# Altium schematic symbol library IC.SchLib: 22 symbols
Pins are listed as number, name and electrical type; pins without a type are passive.

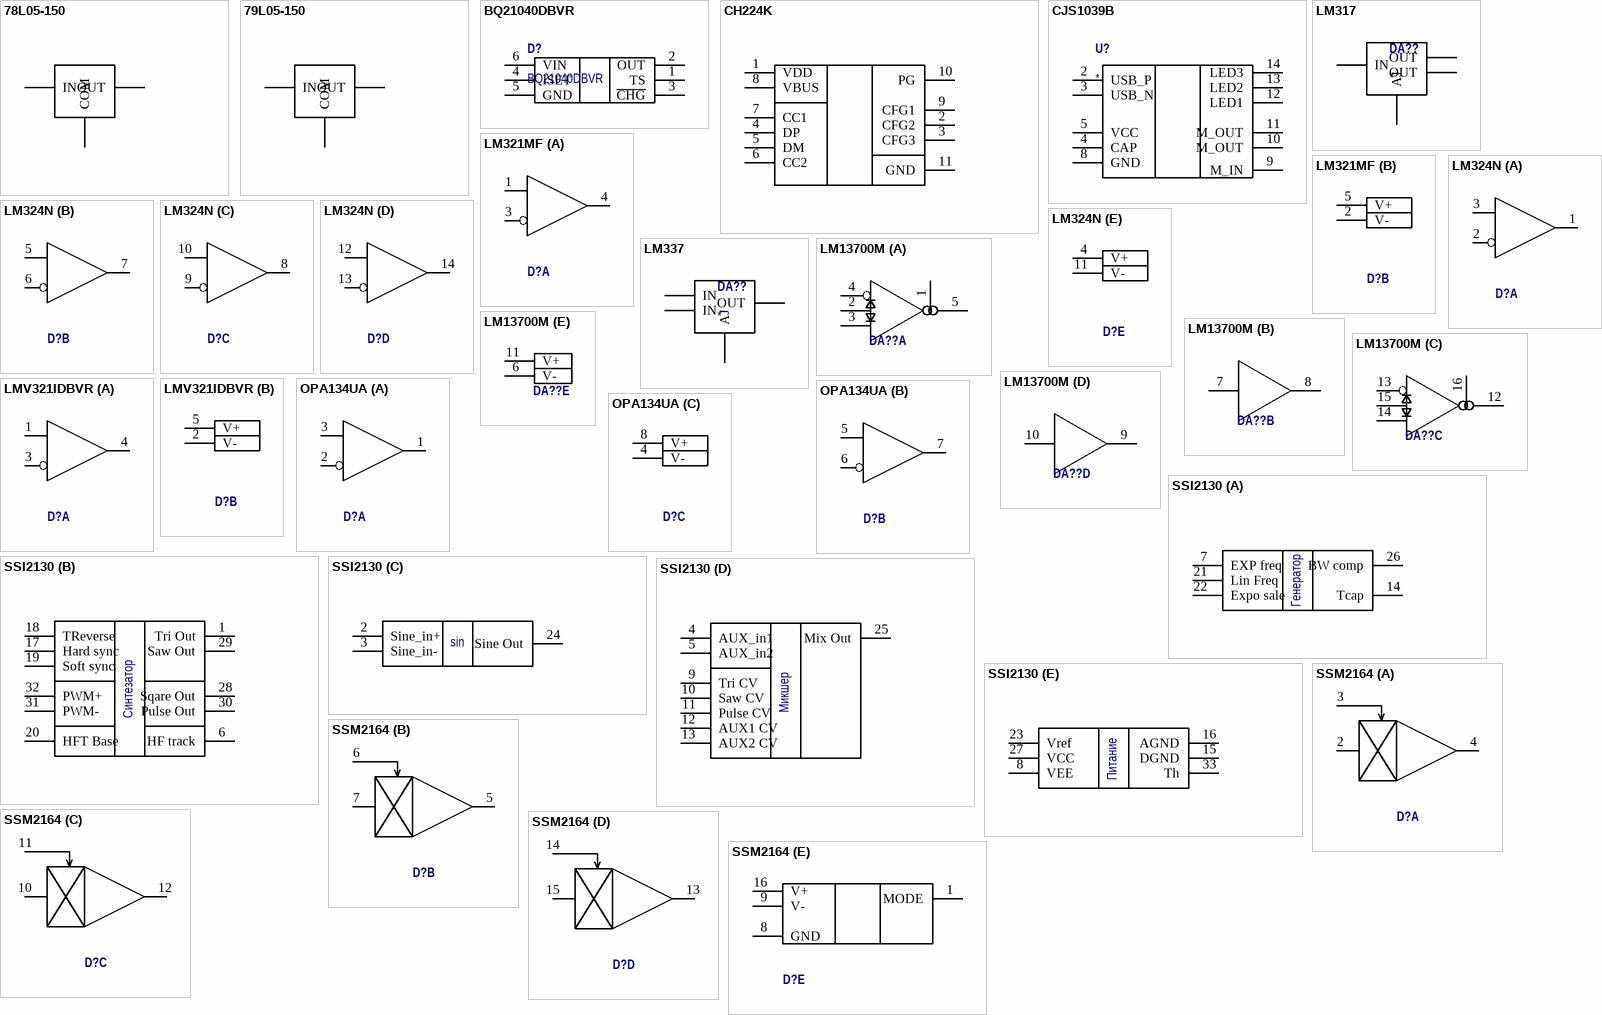
[diagram p0: symbols 78L05-150 to SSM2164]

## 78L05-150
designator D?, comment 78L05  (value not drawn)
Стабилизатор напряжения +5В 0.15А; planar: 1; rotation_offset: 90; name: *
footprint SOT89-150P410X160-3N (SOT89, 3-Leads, Body 4,50x2,45mm, Pitch 1,50mm, Lead Span 4,1mm, IPC Medium Density)
pins: 1 OUT, 2 COM, 3 IN

## 79L05-150
designator D?, comment 79L05  (value not drawn)
Стабилизатор напряжения -5В 0.15А; planar: 1; rotation_offset: 90; name: *
footprint SOT89-150P410X160-3N (SOT89, 3-Leads, Body 4,50x2,45mm, Pitch 1,50mm, Lead Span 4,1mm, IPC Medium Density)
pins: 1 COM, 2 IN, 3 OUT

## BQ21040DBVR
designator D?
Контроллер заряда литий-ионных/полимерных аккумуляторов, 1 Cell, 0.8А; type: Микросхемы; name: BQ21040DBVR
footprint SOT95P280X145-6N (SOT23, 6-Leads, Body 2,90x2,80mm, Pitch 0,95mm, IPC Medium Density)
pins: 1 TS, 2 OUT, 3 ~{CHG}, 4 ISET, 5 GND, 6 VIN

## CH224K
designator D?
CH224K USB QC/PD trigger; planar: 1; rotation_offset: 90; name: CH224K
footprint SOP100P590X180_HS-11N (SOP, 10-Leads, Body 4,90x3,80mm, Pitch 1,00mm, Thermal Pad 3,20x2,30mm, IPC Medium Density)
pins: 1 VDD, 2 CFG2, 3 CFG3, 4 DP, 5 DM, 6 CC2, 7 CC1, 8 VBUS, 9 CFG1, 10 PG, 11 GND

## CJS1039B
designator U?
name: CJS1039B; type: Микросхемы
footprint SOIC127P600-14N
pins: 2 USB_P, 3 USB_N, 4 CAP, 5 VCC, 8 GND, 9 M_IN, 10 M_OUT, 11 M_OUT, 12 LED1, 13 LED2, 14 LED3

## LM317
designator DA??
liner regulator; name: LM317AEMP/NOPB; note1: MC78M06BDT; note2: MC78M09BDTG; note3: MC78M15BDTG; type: Микросхемы
footprint SOT223-4N_3D
pins: 1 AJ, 2 OUT, 3 IN, 4 OUT

## LM321MF
designator D?, comment AMP  (value not drawn)
ОУ; name: LM321MF
footprint SOT23-5M
part A pins: 1 +, 3 -, 4 OUT
part B pins: 2 V-, 5 V+

## LM324N
designator D?, comment Quad AMP  (value not drawn)
Счетверенный ОУ; name: LM324NA
footprint SOIC127P600-14N
part A pins: 1 OUTA, 2 -, 3 +
part B pins: 5 +, 6 -, 7 OUTB
part C pins: 8 OUTC, 9 -, 10 +
part D pins: 12 +, 13 -, 14 OUTD
part E pins: 4 V+, 11 V-

## LM337
designator DA??
liner regulator; name: LM337IMP/NOPB; note1: MC78M06BDT; note2: MC78M09BDTG; note3: MC78M15BDTG; type: Микросхемы
footprint SOT223-4N_3D
pins: 1 AJ, 2 IN, 3 OUT, 4 IN

## LM13700M
designator DA??  (value not drawn)
Dual Operational Transconductance Amplifiers / With Linearizing Diodes and Buffers; name: LM324AM; type: Микросхемы
footprint SOIC127P600X175-16N (SOIC, 16-Leads, Body 9,90x3,85mm, Pitch 1,27mm, IPC Medium Density)
part A pins: 1 CCin, 2 CCin, 3 INA+, 4 INA-, 5 OUTA
part B pins: 7 INA, 8 OUTA
part C pins: 12 OUTB, 13 INB-, 14 INB+, 15 CCin, 16 CCin
part D pins: 9 OUTB, 10 INB
part E pins: 6 V-, 11 V+

## LMV321IDBVR
designator D?, comment AMP  (value not drawn)
ОУ; name: LMV321IDBVR
footprint SOT23-5M
part A pins: 1 +, 3 -, 4 OUT
part B pins: 2 V-, 5 V+

## OPA134UA
designator D?, comment Audio AMP  (value not drawn)
Сдвоенный аудио ОУ; name: OPA134UA
footprint SOIC127P600X175-8N (SOIC, 8-Leads, Body 4,90x3,90mm, Pitch 1,27mm, IPC Medium Density)
part A pins: 1 OUTA, 2 -, 3 +
part B pins: 5 +, 6 -, 7 OUTB
part C pins: 4 V-, 8 V+

## SSI2130
designator D?
name: SSI2130A; type: Микросхемы
footprint QFN40P400X400X80_HS-33N (QFN, 32-Leads, Body 4,00x4,00mm, Pitch 0,40mm, Thermal Pad 2,60x2,60mm, IPC Medium Density)
part A pins: 7 EXP freq, 14 Tcap, 21 Lin Freq, 22 Expo sale, 26 BW comp
part B pins: 1 Tri Out, 6 HF track, 17 Hard sync, 18 TReverse, 19 Soft sync, 20 HFT Base, 28 Sqare Out, 29 Saw Out, 30 Pulse Out, 31 PWM-, 32 PWM+
part C pins: 2 Sine_in+, 3 Sine_in-, 24 Sine Out
part D pins: 4 AUX_in1, 5 AUX_in2, 9 Tri CV, 10 Saw CV, 11 Pulse CV, 12 AUX1 CV, 13 AUX2 CV, 25 Mix Out
part E pins: 8 VEE, 15 DGND, 16 AGND, 23 Vref, 27 VCC, 33 Th
part A text: Генератор
part B text: Синтезатор
part C text: sin
part D text: Микшер
part E text: Питание

## SSM2164
designator D?, comment Quad VCA  (value not drawn)
Счетверенный усилитель, управляемый напряжением; name: LM324NA
footprint SOIC127P600X175-16N (SOIC, 16-Leads, Body 9,90x3,85mm, Pitch 1,27mm, IPC Medium Density)
part A pins: 2 INA, 3 VCA, 4 OUTA
part B pins: 5 OUTB, 6 VCB, 7 INB
part C pins: 10 INC, 11 VCC, 12 OUTC
part D pins: 13 OUTD, 14 VCD, 15 IND
part E pins: 1 MODE, 8 GND, 9 V-, 16 V+

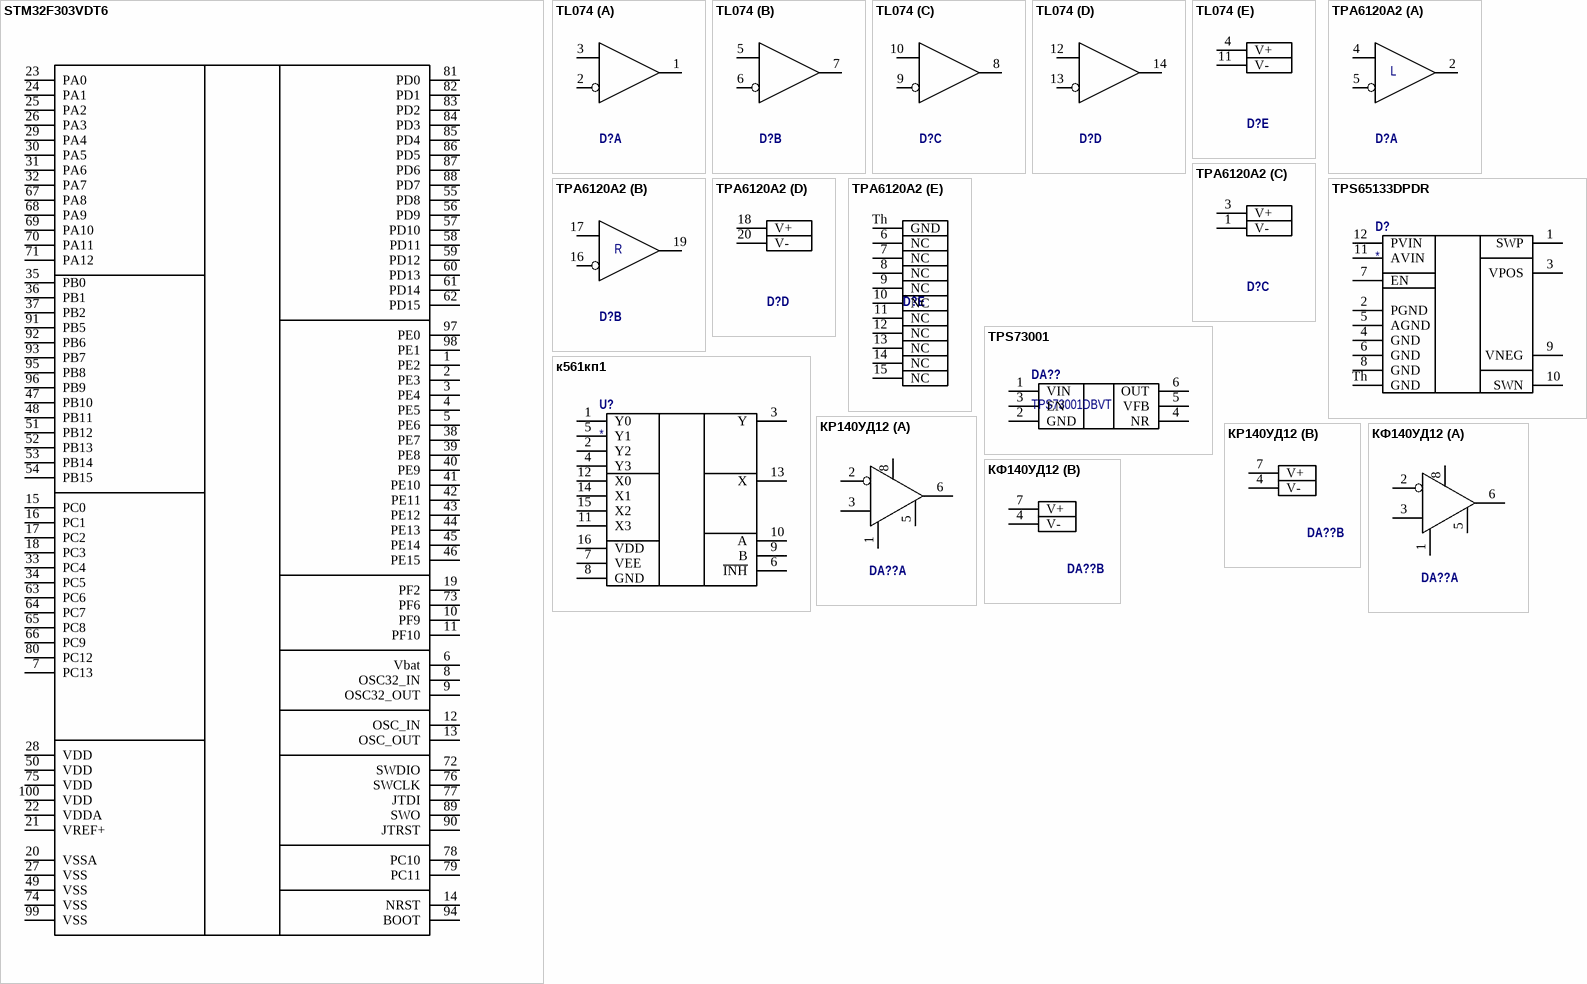
[diagram p1: symbols STM32F303VDT6 to КФ140УД12]

## STM32F303VDT6
designator D?
Микроконтроллер 32 бита, универсальный, ARM Cortex-M4, 72 МГц, 384 КБ, 64 КБ, 100 вывод(-ов), LQFP; planar: 1; rotation_offset: 90; name: *
footprint TSQFP50P1600X1600X160-100N (TSQFP, 100-Leads, Body 14.00x14.00mm, Pitch 0.50mm, IPC Medium Density)
pins: 1 PE2, 2 PE3, 3 PE4, 4 PE5, 5 PE6, 6 Vbat, 7 PC13, 8 OSC32_IN, 9 OSC32_OUT, 10 PF9, 11 PF10, 12 OSC_IN, 13 OSC_OUT, 14 NRST, 15 PC0, 16 PC1, 17 PC2, 18 PC3, 19 PF2, 20 VSSA, 21 VREF+, 22 VDDA, 23 PA0, 24 PA1, 25 PA2, 26 PA3, 27 VSS, 28 VDD, 29 PA4, 30 PA5, 31 PA6, 32 PA7, 33 PC4, 34 PC5, 35 PB0, 36 PB1, 37 PB2, 38 PE7, 39 PE8, 40 PE9, 41 PE10, 42 PE11, 43 PE12, 44 PE13, 45 PE14, 46 PE15, 47 PB10, 48 PB11, 49 VSS, 50 VDD, 51 PB12, 52 PB13, 53 PB14, 54 PB15, 55 PD8, 56 PD9, 57 PD10, 58 PD11, 59 PD12, 60 PD13, 61 PD14, 62 PD15, 63 PC6, 64 PC7, 65 PC8, 66 PC9, 67 PA8, 68 PA9, 69 PA10, 70 PA11, 71 PA12, 72 SWDIO, 73 PF6, 74 VSS, 75 VDD, 76 SWCLK, 77 JTDI, 78 PC10, 79 PC11, 80 PC12, 81 PD0, 82 PD1, 83 PD2, 84 PD3, 85 PD4, 86 PD5, 87 PD6, 88 PD7, 89 SWO, 90 JTRST, 91 PB5, 92 PB6, 93 PB7, 94 BOOT, 95 PB8, 96 PB9, 97 PE0, 98 PE1, 99 VSS, 100 VDD

## TL074
designator D?, comment Quad AMP  (value not drawn)
Счетверенный малошумящий ОУ; name: TL074CD
footprint SOIC127P600-14N
part A pins: 1 OUTA, 2 -, 3 +
part B pins: 5 +, 6 -, 7 OUTB
part C pins: 8 OUTC, 9 -, 10 +
part D pins: 12 +, 13 -, 14 OUTD
part E pins: 4 V+, 11 V-

## TPA6120A2
designator D?, comment Power AMP  (value not drawn)
Малошумящий усилитель для наушников; name: TL074CD
footprint SOIC127P1040X265_HS-21N (SOIC, 20-Leads, Body 12,82x7,52mm, Pitch 1,27mm, Thermal Pad 3,81x2,79mm, IPC Medium Density)
part A pins: 2 OUTA, 4 +, 5 -
part B pins: 16 -, 17 +, 19 OUTB
part C pins: 1 V-, 3 V+
part D pins: 18 V+, 20 V-
part E pins: 6 NC, 7 NC, 8 NC, 9 NC, 10 NC, 11 NC, 12 NC, 13 NC, 14 NC, 15 NC, Th GND
part A text: L
part B text: R

## TPS65133DPDR
designator D?
name: TPS65133DPDR; type: Микросхемы
footprint SON45P300X80_HS-13M (SON, 12-Leads, Body 3,00x3,00mm, Pitch 0,45mm, Thermal Pad 2,02x1,21mm, IPC Low Density)
pins: 1 SWP, 2 PGND, 3 VPOS, 4 GND, 5 AGND, 6 GND, 7 EN, 8 GND, 9 VNEG, 10 SWN, 11 AVIN, 12 PVIN, Th GND

## TPS73001
designator DA??, comment TPS73001DBVT
TPS730 Low-Noise, High PSRR, RF, 200-mA Low-Dropout Linear Regulators; name: TPS73001DBVT; type: Микросхемы
footprint SOT95P280X145-6N (SOT23, 6-Leads, Body 2,90x2,80mm, Pitch 0,95mm, IPC Medium Density)
pins: 1 VIN, 2 GND, 3 EN, 4 NR, 5 VFB, 6 OUT

## к561кп1
designator U?
мультиплексор; name: к561кп1; type: Микросхемы
footprint DIP-16
footprint SOIC127P600X175-16N (SOIC, 16-Leads, Body 9,90x3,85mm, Pitch 1,27mm, IPC Medium Density)
pins: 1 Y0, 2 Y2, 3 Y, 4 Y3, 5 Y1, 6 ~{INH}, 7 VEE, 8 GND, 9 B, 10 A, 11 X3, 12 X0, 13 X, 14 X1, 15 X2, 16 VDD

## КР140УД12
designator DA??  (value not drawn)
Микромощный операционный усилитель с регулируемым потреблением мощности; name: КФ140УД12; type: Микросхемы
footprint DIP-8
part A pins: 1 bal, 2 INA-, 3 INA+, 5 bal, 6 OUTA, 8 Set_curr
part B pins: 4 V-, 7 V+

## КФ140УД12
designator DA??  (value not drawn)
Микромощный операционный усилитель с регулируемым потреблением мощности; name: КФ140УД12; type: Микросхемы
footprint SOIC127P600X175-8N (SOIC, 8-Leads, Body 4,90x3,90mm, Pitch 1,27mm, IPC Medium Density)
part A pins: 1 bal, 2 INA-, 3 INA+, 5 bal, 6 OUTA, 8 Set_curr
part B pins: 4 V-, 7 V+